# EAGLE library part 691412120022 (library Wurth_Elektronik_Electromechanic_Terminal_Blocks_Connectors_rev16b)
WR-TBL Serie 412 - 3.5mm Screwless 45° Entry Grey - 1.5mm2 Wires, 22 Pins
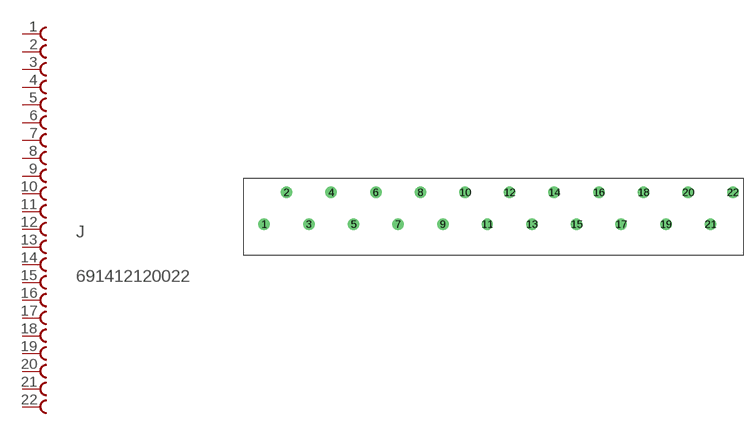
[diagram p209: symbol with the pads of 691412120022; footprint 691412120022]

Designator prefix J

## 691412120022  [691412120022]
1  1  pas
2  2  pas
3  3  pas
4  4  pas
5  5  pas
6  6  pas
7  7  pas
8  8  pas
9  9  pas
10  10  pas
11  11  pas
12  12  pas
13  13  pas
14  14  pas
15  15  pas
16  16  pas
17  17  pas
18  18  pas
19  19  pas
20  20  pas
21  21  pas
22  22  pas

## Footprint 691412120022 (pad centres in mm)
WR-TBL Serie 412 - 3.5mm Screwless 45° Entry Grey - 1.5mm2 Wires, 22 Pins
drill 1.2: 1 -69.97,0; 2 -66.47,5; 3 -62.97,0; 4 -59.47,5; 5 -55.97,0; 6 -52.47,5; 7 -48.97,0; 8 -45.47,5; 9 -41.97,0; 10 -38.47,5; 11 -35,0; 12 -31.5,5; 13 -28,0; 14 -24.5,5; 15 -21,0; 16 -17.5,5; 17 -14,0; 18 -10.5,5; 19 -7,0; 20 -3.5,5; 21 0,0; 22 3.5,5